# Altium footprint library PcbLib2.PcbLib: 1 footprints
Each footprint in its own frame and in the unit in brackets; x right, y up, seen from the top. Pads: shape width x height; smd on the part's side, far side on the other; paste and mask are expansions set on the pad; w line width, h text height; cw(c..) or ccw(c..) is an arc to the next point about the centre after c.
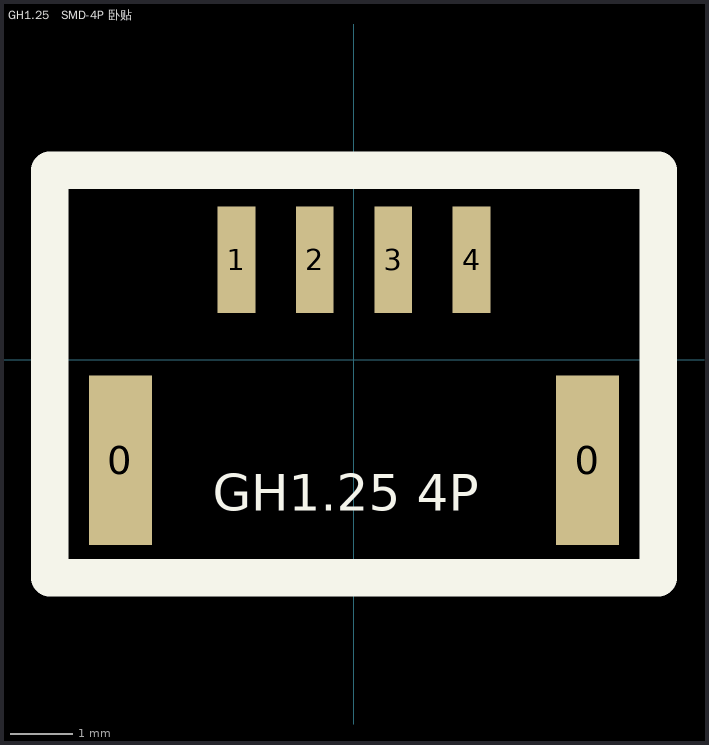
[diagram p0: the footprint, top view; thin cyan lines are the x and y axes]

## GH1.25   SMD-4P 卧贴 [mm]
pads (6):
  rect 1x2.7 smd: 0(-3.725,-1.6) 0(3.725,-1.6)
  rect 0.6x1.7 smd: 1(-1.875,1.6) 2(-0.625,1.6) 3(0.625,1.6) 4(1.875,1.6)
Top Overlay:
  lines w0.6: -4.85,-3.475 -4.85,3.025 4.85,3.025 4.85,-3.475 -4.85,-3.475
  text "GH1.25 4P" at -2.25,-2.6 h1